# EAGLE library part KPCA03-105 (library Disp)
Kingbright KPCA03-105 Surface Mount Quad Display Red
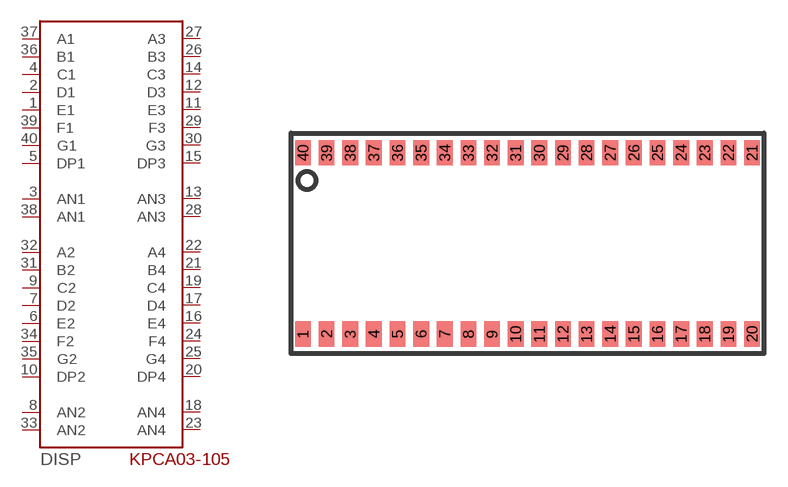
[diagram p9: symbol with the pads of KPCA03-105; footprint KPCA03-105]

Designator prefix DISP

## KPCA03-105  [KPCA03-105]
1  E1
2  D1
3  AN1
4  C1
5  DP1
6  E2
7  D2
8  AN2
9  C2
10  DP2
11  E3
12  D3
13  AN3
14  C3
15  DP3
16  E4
17  D4
18  AN4
19  C4
20  DP4
21  B4
22  A4
23  AN4
24  F4
25  G4
26  B3
27  A3
28  AN3
29  F3
30  G3
31  B2
32  A2
33  AN2
34  F2
35  G2
36  B1
37  A1
38  AN1
39  F1
40  G1

## Footprint KPCA03-105 (pad centres in mm)
SMD 30x12mm
smd 1 x 1.6: 1 -14.25,-5.75; 2 -12.75,-5.75; 3 -11.25,-5.75; 4 -9.75,-5.75; 5 -8.25,-5.75; 6 -6.75,-5.75; 7 -5.25,-5.75; 8 -3.75,-5.75; 9 -2.25,-5.75; 10 -0.75,-5.75; 11 0.75,-5.75; 12 2.25,-5.75; 13 3.75,-5.75; 14 5.25,-5.75; 15 6.75,-5.75; 16 8.25,-5.75; 17 9.75,-5.75; 18 11.25,-5.75; 19 12.75,-5.75; 20 14.25,-5.75; 21 14.25,5.75; 22 12.75,5.75; 23 11.25,5.75; 24 9.75,5.75; 25 8.25,5.75; 26 6.75,5.75; 27 5.25,5.75; 28 3.75,5.75; 29 2.25,5.75; 30 0.75,5.75; 31 -0.75,5.75; 32 -2.25,5.75; 33 -3.75,5.75; 34 -5.25,5.75; 35 -6.75,5.75; 36 -8.25,5.75; 37 -9.75,5.75; 38 -11.25,5.75; 39 -12.75,5.75; 40 -14.25,5.75